# Altium integrated library Linear Technology Power Management Battery Management.IntLib: 626 symbols (part 41 of 56)
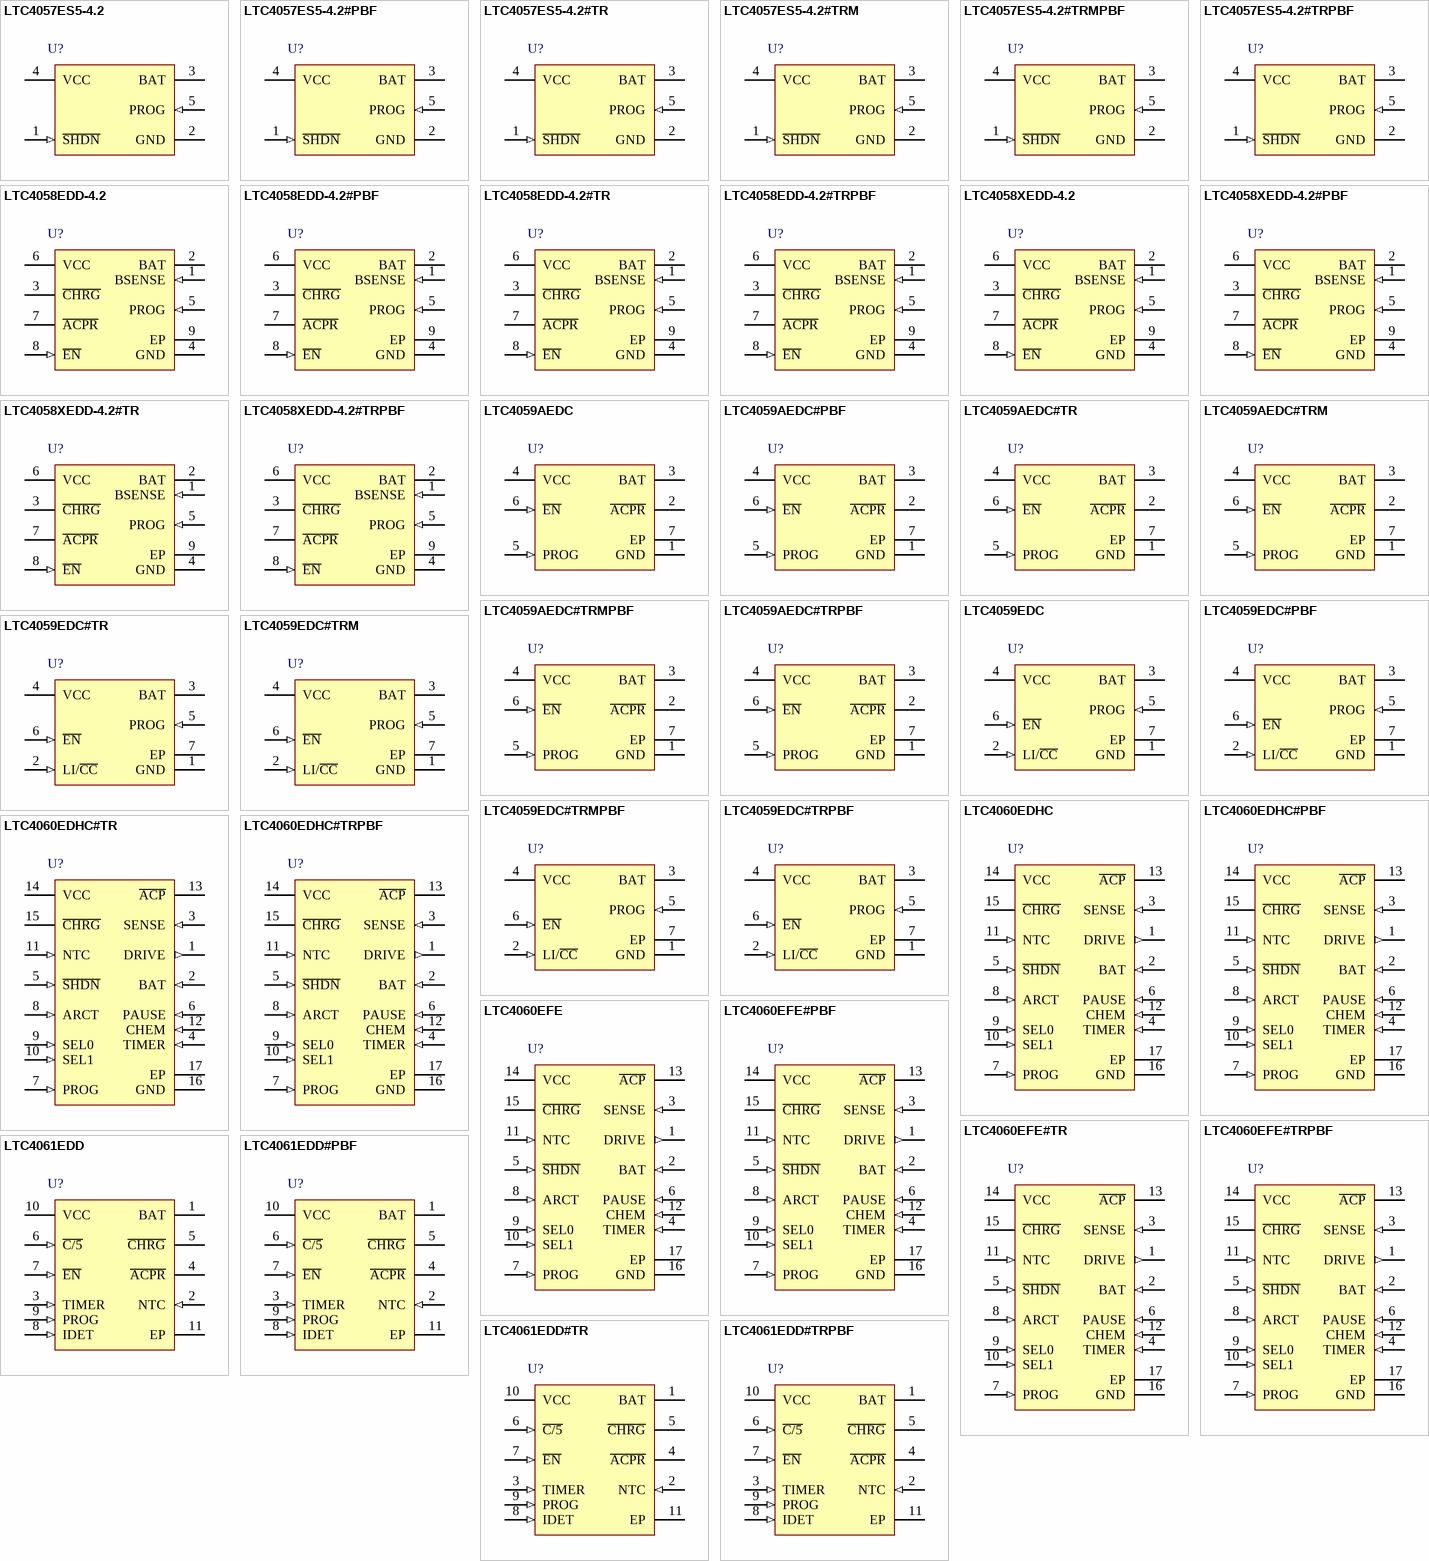
[diagram p62: symbols LTC4057ES5-4.2 to LTC4061EDD#TRPBF]

## LTC4058XEDD-4.2#TRPBF
designator U?
Standalone Linear Li-Ion Battery Charger with Thermal Regulation, 4.25 to 6.5 V Vin, 8-pin SON (DD-8), -40 to 85 degC, Pb-Free, Tape and Reel; Manufacturer: Linear Technology; PartNumber: LTC4058XEDD-4.2#TRPBF; Battery Chemistry: Li-Ion, Li-Polymer; Charge Termination: C/10; Float Voltage: 4.2 V; Max Charge Current(A): 0.95; Number of Cells: 1; Vin Max(V): 6.5; Vin Min(V): 4.25; PackageVersion: Jun-10; PackageReference: DD-8; PackageDescription: 8-Pin Plastic DFN, Body 3 x 3 mm, Pitch 0.5 mm; Supplier 1: Digi-Key; Supplier Part Number 1: LTC4058XEDD-4.2#TRPBF-ND; Packing: Tape and Reel; RoHS: TRUE; Type of Charger: Linear; Mounting Technology: Surface Mount; Code_JEDEC: MO-229; ComponentLink1Description: Manufacturer URL; ComponentLink1URL: http://www.linear.com/; ComponentLink2Description: Datasheet; ComponentLink2URL: http://cds.linear.com/docs/en/datasheet/405842fs.pdf; ComponentLink3Description: Package Specification; ComponentLink3URL: http://cds.linear.com/docs/en/packaging/DFN_8_05-08-1698.pdf
footprint LT-DD-8_V (SON, 8-Leads, Body 3x3mm, Pitch 0.5mm, Thermal Pad 1.65x2.38 mm)
pins: 1 BSENSE (in) "Battery Sense. This pin is used to Kelvin sense the positive battery terminal and regulate the final float voltage to 4.2V. An internal precision resistor divider sets this float voltage and is disconnected in shutdown mode. (See Datasheet)", 2 BAT (power) "Charge Current Output. Provides charge current to the battery from the internal P-channel MOSFET", 3 ~{CHRG} (hiz) "Charge Status Open-Drain Output. When the battery is charging, the C\H\R\G\ pin is pulled low by an internal N-channel MOSFET. When the charge cycle is completed, C\H\R\G\ becomes high impedance.", 4 GND (power) "Ground/Exposed Pad. The exposed backside of the package (Pin 9) is also ground and must be soldered to the PC board for maximum heat transfer.", 5 PROG (in) "Charge Current Program and Charge Current Monitor. Charge current is programmed by connecting a 1% resistor, RPROG, to ground. When charging in constant-current mode, this pin servos to 1V. In all modes,the voltage on this (See Datasheet)", 6 VCC (power) "Positive Input Supply Voltage. Provides power to the charger. VCC can range from 4.25V to 6.5V. This pin should be bypassed with at least a 1uF capacitor. When VCC is within 100mV of the BSENSE pin voltage, the LTC4058 (See Datasheet)", 7 ~{ACPR} (hiz) "Power Supply Status Open-Drain Output. When VCC is greater than the undervoltage lockout threshold and at least 100mV above VBSENSE, the A\C\P\R\ pin is pulled to ground; otherwise, the pin is high impedance.", 8 ~{EN} (in) "Enable Input . A logic high on the EN pin will put the LTC4058 into shutdown mode where the battery drain current is reduced to less than 2uA and the supply current is reduced to less than 50uA. A logic low or floating the (See Datasheet)", 9 EP (power) "Ground/Exposed Pad. The exposed backside of the package (Pin 9) is also ground and must be soldered to the PC board for maximum heat transfer."

## LTC4059AEDC
designator U?
900 mA Linear Li-Ion Battery Chargers with Thermal Regulation, 3.75 to 8 V Vin, 6-pin SON (DC6-6), -40 to 85 degC; Manufacturer: Linear Technology; PartNumber: LTC4059AEDC; Battery Chemistry: Li-Ion, Li-Polymer, NiCd, NiMH; Charge Termination: Microcontroller; Float Voltage: 4.2 V; Max Charge Current(A): 0.9; Number of Cells: 1; Vin Max(V): 8; Vin Min(V): 3.75; DatasheetVersion: Rev. B; PackageVersion: Rev. B, 06/2010; PackageReference: DC6-6; PackageDescription: 6-Pin Plastic DFN, Body 2 x 2 mm, Pitch 0.5 mm; RoHS: FALSE; Type of Charger: Linear; Mounting Technology: Surface Mount; Code_JEDEC: MO-229; ComponentLink1Description: Manufacturer URL; ComponentLink1URL: http://www.linear.com/; ComponentLink2Description: Datasheet; ComponentLink2URL: http://cds.linear.com/docs/en/datasheet/4059fb.pdf; ComponentLink3Description: Package Specification; ComponentLink3URL: http://cds.linear.com/docs/en/packaging/DFN_6_05-08-1703.pdf
footprint LT-DC6-6_V (SON, 6-Leads, Body 2x2mm, Pitch 0.5mm, Thermal Pad 1.42x0.61mm)
pins: 1 GND (power) "Ground.", 2 ~{ACPR} (hiz) "Open-Drain Power Supply Status Output. When VCC is greater than the undervoltage lockout threshold, the ACPR pin will pull to ground; otherwise the pin is forced to a high impedance state", 3 BAT (power) "Charge Current Output. Provides charge current to the battery and regulates the final float voltage to 4.2V. An internal precision resistor divider on this pin sets the float voltage and is disconnected in shutdown mode.", 4 VCC (power) "Positive Input Supply Voltage. This pin provides power to the charger. VCC can range from 3.75V to 5.5V. This pin should be bypassed with at least a 1uF capacitor. When VCC is within 32mV of the BAT pin voltage, the LTC4069 (See Datasheet)", 5 PROG (in) "Charge Current Program and Charge Current Monitor Pin. Connecting a 1% resistor, RPROG, to ground programs the charge current. When charging in constant-current mode, this pin servos to 1V. In all modes, the voltage on this (See Datasheet)", 6 ~{EN} (in) "Enable Input Pin. Pulling this pin above the  manual shutdown threshold (VMS is typically 0.92V) puts  the LTC4059 in shutdown mode, thus terminating a charge   cycle. In shutdown mode, the LTC4059 has less than 25uA  supply (See Datasheet)", 7 EP (power) "The exposed package pad is ground and must be soldered to the PC board for maximum heat transfer."

## LTC4059AEDC#PBF
designator U?
900 mA Linear Li-Ion Battery Chargers with Thermal Regulation, 3.75 to 8 V Vin, 6-pin SON (DC6-6), -40 to 85 degC, Pb-Free; Manufacturer: Linear Technology; PartNumber: LTC4059AEDC#PBF; Battery Chemistry: Li-Ion, Li-Polymer, NiCd, NiMH; Charge Termination: Microcontroller; Float Voltage: 4.2 V; Max Charge Current(A): 0.9; Number of Cells: 1; Vin Max(V): 8; Vin Min(V): 3.75; DatasheetVersion: Rev. B; PackageVersion: Rev. B, 06/2010; PackageReference: DC6-6; PackageDescription: 6-Pin Plastic DFN, Body 2 x 2 mm, Pitch 0.5 mm; RoHS: TRUE; Type of Charger: Linear; Mounting Technology: Surface Mount; Code_JEDEC: MO-229; ComponentLink1Description: Manufacturer URL; ComponentLink1URL: http://www.linear.com/; ComponentLink2Description: Datasheet; ComponentLink2URL: http://cds.linear.com/docs/en/datasheet/4059fb.pdf; ComponentLink3Description: Package Specification; ComponentLink3URL: http://cds.linear.com/docs/en/packaging/DFN_6_05-08-1703.pdf
footprint LT-DC6-6_V (SON, 6-Leads, Body 2x2mm, Pitch 0.5mm, Thermal Pad 1.42x0.61mm)
pins: 1 GND (power) "Ground.", 2 ~{ACPR} (hiz) "Open-Drain Power Supply Status Output. When VCC is greater than the undervoltage lockout threshold, the ACPR pin will pull to ground; otherwise the pin is forced to a high impedance state", 3 BAT (power) "Charge Current Output. Provides charge current to the battery and regulates the final float voltage to 4.2V. An internal precision resistor divider on this pin sets the float voltage and is disconnected in shutdown mode.", 4 VCC (power) "Positive Input Supply Voltage. This pin provides power to the charger. VCC can range from 3.75V to 5.5V. This pin should be bypassed with at least a 1uF capacitor. When VCC is within 32mV of the BAT pin voltage, the LTC4069 (See Datasheet)", 5 PROG (in) "Charge Current Program and Charge Current Monitor Pin. Connecting a 1% resistor, RPROG, to ground programs the charge current. When charging in constant-current mode, this pin servos to 1V. In all modes, the voltage on this (See Datasheet)", 6 ~{EN} (in) "Enable Input Pin. Pulling this pin above the  manual shutdown threshold (VMS is typically 0.92V) puts  the LTC4059 in shutdown mode, thus terminating a charge   cycle. In shutdown mode, the LTC4059 has less than 25uA  supply (See Datasheet)", 7 EP (power) "The exposed package pad is ground and must be soldered to the PC board for maximum heat transfer."

## LTC4059AEDC#TR
designator U?
900 mA Linear Li-Ion Battery Chargers with Thermal Regulation, 3.75 to 8 V Vin, 6-pin SON (DC6-6), -40 to 85 degC, Tape and Reel; Manufacturer: Linear Technology; PartNumber: LTC4059AEDC#TR; Battery Chemistry: Li-Ion, Li-Polymer, NiCd, NiMH; Charge Termination: Microcontroller; Float Voltage: 4.2 V; Max Charge Current(A): 0.9; Number of Cells: 1; Vin Max(V): 8; Vin Min(V): 3.75; DatasheetVersion: Rev. B; PackageVersion: Rev. B, 06/2010; PackageReference: DC6-6; PackageDescription: 6-Pin Plastic DFN, Body 2 x 2 mm, Pitch 0.5 mm; Supplier 1: Digi-Key; Supplier Part Number 1: LTC4059AEDC#TR-ND; Packing: Tape and Reel; RoHS: FALSE; Type of Charger: Linear; Mounting Technology: Surface Mount; Code_JEDEC: MO-229; ComponentLink1Description: Manufacturer URL; ComponentLink1URL: http://www.linear.com/; ComponentLink2Description: Datasheet; ComponentLink2URL: http://cds.linear.com/docs/en/datasheet/4059fb.pdf; ComponentLink3Description: Package Specification; ComponentLink3URL: http://cds.linear.com/docs/en/packaging/DFN_6_05-08-1703.pdf
footprint LT-DC6-6_V (SON, 6-Leads, Body 2x2mm, Pitch 0.5mm, Thermal Pad 1.42x0.61mm)
pins: 1 GND (power) "Ground.", 2 ~{ACPR} (hiz) "Open-Drain Power Supply Status Output. When VCC is greater than the undervoltage lockout threshold, the ACPR pin will pull to ground; otherwise the pin is forced to a high impedance state", 3 BAT (power) "Charge Current Output. Provides charge current to the battery and regulates the final float voltage to 4.2V. An internal precision resistor divider on this pin sets the float voltage and is disconnected in shutdown mode.", 4 VCC (power) "Positive Input Supply Voltage. This pin provides power to the charger. VCC can range from 3.75V to 5.5V. This pin should be bypassed with at least a 1uF capacitor. When VCC is within 32mV of the BAT pin voltage, the LTC4069 (See Datasheet)", 5 PROG (in) "Charge Current Program and Charge Current Monitor Pin. Connecting a 1% resistor, RPROG, to ground programs the charge current. When charging in constant-current mode, this pin servos to 1V. In all modes, the voltage on this (See Datasheet)", 6 ~{EN} (in) "Enable Input Pin. Pulling this pin above the  manual shutdown threshold (VMS is typically 0.92V) puts  the LTC4059 in shutdown mode, thus terminating a charge   cycle. In shutdown mode, the LTC4059 has less than 25uA  supply (See Datasheet)", 7 EP (power) "The exposed package pad is ground and must be soldered to the PC board for maximum heat transfer."

## LTC4059AEDC#TRM
designator U?
900 mA Linear Li-Ion Battery Chargers with Thermal Regulation, 3.75 to 8 V Vin, 6-pin SON (DC6-6), -40 to 85 degC, Mini Tape and Reel; Manufacturer: Linear Technology; PartNumber: LTC4059AEDC#TRM; Battery Chemistry: Li-Ion, Li-Polymer, NiCd, NiMH; Charge Termination: Microcontroller; Float Voltage: 4.2 V; Max Charge Current(A): 0.9; Number of Cells: 1; Vin Max(V): 8; Vin Min(V): 3.75; DatasheetVersion: Rev. B; PackageVersion: Rev. B, 06/2010; PackageReference: DC6-6; PackageDescription: 6-Pin Plastic DFN, Body 2 x 2 mm, Pitch 0.5 mm; Supplier 1: Digi-Key; Supplier Part Number 1: LTC4059AEDC#TRM-ND; Packing: Mini Tape and Reel; RoHS: FALSE; Type of Charger: Linear; Mounting Technology: Surface Mount; Code_JEDEC: MO-229; ComponentLink1Description: Manufacturer URL; ComponentLink1URL: http://www.linear.com/; ComponentLink2Description: Datasheet; ComponentLink2URL: http://cds.linear.com/docs/en/datasheet/4059fb.pdf; ComponentLink3Description: Package Specification; ComponentLink3URL: http://cds.linear.com/docs/en/packaging/DFN_6_05-08-1703.pdf
footprint LT-DC6-6_V (SON, 6-Leads, Body 2x2mm, Pitch 0.5mm, Thermal Pad 1.42x0.61mm)
pins: 1 GND (power) "Ground.", 2 ~{ACPR} (hiz) "Open-Drain Power Supply Status Output. When VCC is greater than the undervoltage lockout threshold, the ACPR pin will pull to ground; otherwise the pin is forced to a high impedance state", 3 BAT (power) "Charge Current Output. Provides charge current to the battery and regulates the final float voltage to 4.2V. An internal precision resistor divider on this pin sets the float voltage and is disconnected in shutdown mode.", 4 VCC (power) "Positive Input Supply Voltage. This pin provides power to the charger. VCC can range from 3.75V to 5.5V. This pin should be bypassed with at least a 1uF capacitor. When VCC is within 32mV of the BAT pin voltage, the LTC4069 (See Datasheet)", 5 PROG (in) "Charge Current Program and Charge Current Monitor Pin. Connecting a 1% resistor, RPROG, to ground programs the charge current. When charging in constant-current mode, this pin servos to 1V. In all modes, the voltage on this (See Datasheet)", 6 ~{EN} (in) "Enable Input Pin. Pulling this pin above the  manual shutdown threshold (VMS is typically 0.92V) puts  the LTC4059 in shutdown mode, thus terminating a charge   cycle. In shutdown mode, the LTC4059 has less than 25uA  supply (See Datasheet)", 7 EP (power) "The exposed package pad is ground and must be soldered to the PC board for maximum heat transfer."

## LTC4059AEDC#TRMPBF
designator U?
900 mA Linear Li-Ion Battery Chargers with Thermal Regulation, 3.75 to 8 V Vin, 6-pin SON (DC6-6), -40 to 85 degC, Pb-Free, Mini Tape and Reel; Manufacturer: Linear Technology; PartNumber: LTC4059AEDC#TRMPBF; Battery Chemistry: Li-Ion, Li-Polymer, NiCd, NiMH; Charge Termination: Microcontroller; Float Voltage: 4.2 V; Max Charge Current(A): 0.9; Number of Cells: 1; Vin Max(V): 8; Vin Min(V): 3.75; DatasheetVersion: Rev. B; PackageVersion: Rev. B, 06/2010; PackageReference: DC6-6; PackageDescription: 6-Pin Plastic DFN, Body 2 x 2 mm, Pitch 0.5 mm; Supplier 1: Digi-Key; Supplier Part Number 1: LTC4059AEDC#TRMPBF-ND; Supplier 2: Newark; Supplier Part Number 2: 56M8669; Packing: Mini Tape and Reel; RoHS: TRUE; Type of Charger: Linear; Mounting Technology: Surface Mount; Code_JEDEC: MO-229; ComponentLink1Description: Manufacturer URL; ComponentLink1URL: http://www.linear.com/; ComponentLink2Description: Datasheet; ComponentLink2URL: http://cds.linear.com/docs/en/datasheet/4059fb.pdf; ComponentLink3Description: Package Specification; ComponentLink3URL: http://cds.linear.com/docs/en/packaging/DFN_6_05-08-1703.pdf
footprint LT-DC6-6_V (SON, 6-Leads, Body 2x2mm, Pitch 0.5mm, Thermal Pad 1.42x0.61mm)
pins: 1 GND (power) "Ground.", 2 ~{ACPR} (hiz) "Open-Drain Power Supply Status Output. When VCC is greater than the undervoltage lockout threshold, the ACPR pin will pull to ground; otherwise the pin is forced to a high impedance state", 3 BAT (power) "Charge Current Output. Provides charge current to the battery and regulates the final float voltage to 4.2V. An internal precision resistor divider on this pin sets the float voltage and is disconnected in shutdown mode.", 4 VCC (power) "Positive Input Supply Voltage. This pin provides power to the charger. VCC can range from 3.75V to 5.5V. This pin should be bypassed with at least a 1uF capacitor. When VCC is within 32mV of the BAT pin voltage, the LTC4069 (See Datasheet)", 5 PROG (in) "Charge Current Program and Charge Current Monitor Pin. Connecting a 1% resistor, RPROG, to ground programs the charge current. When charging in constant-current mode, this pin servos to 1V. In all modes, the voltage on this (See Datasheet)", 6 ~{EN} (in) "Enable Input Pin. Pulling this pin above the  manual shutdown threshold (VMS is typically 0.92V) puts  the LTC4059 in shutdown mode, thus terminating a charge   cycle. In shutdown mode, the LTC4059 has less than 25uA  supply (See Datasheet)", 7 EP (power) "The exposed package pad is ground and must be soldered to the PC board for maximum heat transfer."

## LTC4059AEDC#TRPBF
designator U?
900 mA Linear Li-Ion Battery Chargers with Thermal Regulation, 3.75 to 8 V Vin, 6-pin SON (DC6-6), -40 to 85 degC, Pb-Free, Tape and Reel; Manufacturer: Linear Technology; PartNumber: LTC4059AEDC#TRPBF; Battery Chemistry: Li-Ion, Li-Polymer, NiCd, NiMH; Charge Termination: Microcontroller; Float Voltage: 4.2 V; Max Charge Current(A): 0.9; Number of Cells: 1; Vin Max(V): 8; Vin Min(V): 3.75; DatasheetVersion: Rev. B; PackageVersion: Rev. B, 06/2010; PackageReference: DC6-6; PackageDescription: 6-Pin Plastic DFN, Body 2 x 2 mm, Pitch 0.5 mm; Supplier 1: Digi-Key; Supplier Part Number 1: LTC4059AEDC#TRPBF-ND; Supplier 2: Newark; Supplier Part Number 2: 56M8670; Packing: Tape and Reel; RoHS: TRUE; Type of Charger: Linear; Mounting Technology: Surface Mount; Code_JEDEC: MO-229; ComponentLink1Description: Manufacturer URL; ComponentLink1URL: http://www.linear.com/; ComponentLink2Description: Datasheet; ComponentLink2URL: http://cds.linear.com/docs/en/datasheet/4059fb.pdf; ComponentLink3Description: Package Specification; ComponentLink3URL: http://cds.linear.com/docs/en/packaging/DFN_6_05-08-1703.pdf
footprint LT-DC6-6_V (SON, 6-Leads, Body 2x2mm, Pitch 0.5mm, Thermal Pad 1.42x0.61mm)
pins: 1 GND (power) "Ground.", 2 ~{ACPR} (hiz) "Open-Drain Power Supply Status Output. When VCC is greater than the undervoltage lockout threshold, the ACPR pin will pull to ground; otherwise the pin is forced to a high impedance state", 3 BAT (power) "Charge Current Output. Provides charge current to the battery and regulates the final float voltage to 4.2V. An internal precision resistor divider on this pin sets the float voltage and is disconnected in shutdown mode.", 4 VCC (power) "Positive Input Supply Voltage. This pin provides power to the charger. VCC can range from 3.75V to 5.5V. This pin should be bypassed with at least a 1uF capacitor. When VCC is within 32mV of the BAT pin voltage, the LTC4069 (See Datasheet)", 5 PROG (in) "Charge Current Program and Charge Current Monitor Pin. Connecting a 1% resistor, RPROG, to ground programs the charge current. When charging in constant-current mode, this pin servos to 1V. In all modes, the voltage on this (See Datasheet)", 6 ~{EN} (in) "Enable Input Pin. Pulling this pin above the  manual shutdown threshold (VMS is typically 0.92V) puts  the LTC4059 in shutdown mode, thus terminating a charge   cycle. In shutdown mode, the LTC4059 has less than 25uA  supply (See Datasheet)", 7 EP (power) "The exposed package pad is ground and must be soldered to the PC board for maximum heat transfer."

## LTC4059EDC
designator U?
900 mA Linear Li-Ion Battery Chargers with Thermal Regulation, 3.75 to 8 V Vin, 6-pin SON (DC6-6), -40 to 85 degC; Manufacturer: Linear Technology; PartNumber: LTC4059EDC; Battery Chemistry: Li-Ion, Li-Polymer, NiCd, NiMH; Charge Termination: Microcontroller; Float Voltage: 4.2 V; Max Charge Current(A): 0.9; Number of Cells: 1; Vin Max(V): 8; Vin Min(V): 3.75; DatasheetVersion: Rev. B; PackageVersion: Rev. B, 06/2010; PackageReference: DC6-6; PackageDescription: 6-Pin Plastic DFN, Body 2 x 2 mm, Pitch 0.5 mm; RoHS: FALSE; Type of Charger: Linear; Mounting Technology: Surface Mount; Code_JEDEC: MO-229; ComponentLink1Description: Manufacturer URL; ComponentLink1URL: http://www.linear.com/; ComponentLink2Description: Datasheet; ComponentLink2URL: http://cds.linear.com/docs/en/datasheet/4059fb.pdf; ComponentLink3Description: Package Specification; ComponentLink3URL: http://cds.linear.com/docs/en/packaging/DFN_6_05-08-1703.pdf
footprint LT-DC6-6_V (SON, 6-Leads, Body 2x2mm, Pitch 0.5mm, Thermal Pad 1.42x0.61mm)
pins: 1 GND (power) "Ground.", 2 LI/~{CC} (in) "Li-Ion/Constant Current Input Pin. Pulling this pin above VLi/C\C\ disables voltage mode thereby providing a constant current to the BAT pin. This feature is useful for charging Nickel chemistry batteries. Tie to GND if (See Datasheet)", 3 BAT (power) "Charge Current Output. Provides charge current to the battery and regulates the final float voltage to 4.2V. An internal precision resistor divider on this pin sets the float voltage and is disconnected in shutdown mode.", 4 VCC (power) "Positive Input Supply Voltage. This pin provides power to the charger. VCC can range from 3.75V to 8V. This pin should be bypassed with at least a 1uF capacitor. When VCC is within 35mV of the BAT pin voltage, the LTC4059 (See Datasheet)", 5 PROG (in) "Charge Current Program and Charge Current Monitor Pin. Connecting a resistor, RPROG, to ground programs the charge current. When charging in constantcurrent mode, this pin servos to 1.21V. In all modes, the voltage on this (See Datasheet)", 6 ~{EN} (in) "Enable Input Pin. Pulling this pin above the  manual shutdown threshold (VMS is typically 0.92V) puts  the LTC4059 in shutdown mode, thus terminating a charge   cycle. In shutdown mode, the LTC4059 has less than 25uA  supply (See Datasheet)", 7 EP (power) "The exposed package pad is ground and must be soldered to the PC board for maximum heat transfer."

## LTC4059EDC#PBF
designator U?
900 mA Linear Li-Ion Battery Chargers with Thermal Regulation, 3.75 to 8 V Vin, 6-pin SON (DC6-6), -40 to 85 degC, Pb-Free; Manufacturer: Linear Technology; PartNumber: LTC4059EDC#PBF; Battery Chemistry: Li-Ion, Li-Polymer, NiCd, NiMH; Charge Termination: Microcontroller; Float Voltage: 4.2 V; Max Charge Current(A): 0.9; Number of Cells: 1; Vin Max(V): 8; Vin Min(V): 3.75; DatasheetVersion: Rev. B; PackageVersion: Rev. B, 06/2010; PackageReference: DC6-6; PackageDescription: 6-Pin Plastic DFN, Body 2 x 2 mm, Pitch 0.5 mm; Supplier 1: Newark; Supplier Part Number 1: 78T3299; RoHS: TRUE; Type of Charger: Linear; Mounting Technology: Surface Mount; Code_JEDEC: MO-229; ComponentLink1Description: Manufacturer URL; ComponentLink1URL: http://www.linear.com/; ComponentLink2Description: Datasheet; ComponentLink2URL: http://cds.linear.com/docs/en/datasheet/4059fb.pdf; ComponentLink3Description: Package Specification; ComponentLink3URL: http://cds.linear.com/docs/en/packaging/DFN_6_05-08-1703.pdf
footprint LT-DC6-6_V (SON, 6-Leads, Body 2x2mm, Pitch 0.5mm, Thermal Pad 1.42x0.61mm)
pins: 1 GND (power) "Ground.", 2 LI/~{CC} (in) "Li-Ion/Constant Current Input Pin. Pulling this pin above VLi/C\C\ disables voltage mode thereby providing a constant current to the BAT pin. This feature is useful for charging Nickel chemistry batteries. Tie to GND if (See Datasheet)", 3 BAT (power) "Charge Current Output. Provides charge current to the battery and regulates the final float voltage to 4.2V. An internal precision resistor divider on this pin sets the float voltage and is disconnected in shutdown mode.", 4 VCC (power) "Positive Input Supply Voltage. This pin provides power to the charger. VCC can range from 3.75V to 8V. This pin should be bypassed with at least a 1uF capacitor. When VCC is within 35mV of the BAT pin voltage, the LTC4059 (See Datasheet)", 5 PROG (in) "Charge Current Program and Charge Current Monitor Pin. Connecting a resistor, RPROG, to ground programs the charge current. When charging in constantcurrent mode, this pin servos to 1.21V. In all modes, the voltage on this (See Datasheet)", 6 ~{EN} (in) "Enable Input Pin. Pulling this pin above the  manual shutdown threshold (VMS is typically 0.92V) puts  the LTC4059 in shutdown mode, thus terminating a charge   cycle. In shutdown mode, the LTC4059 has less than 25uA  supply (See Datasheet)", 7 EP (power) "The exposed package pad is ground and must be soldered to the PC board for maximum heat transfer."

## LTC4059EDC#TR
designator U?
900 mA Linear Li-Ion Battery Chargers with Thermal Regulation, 3.75 to 8 V Vin, 6-pin SON (DC6-6), -40 to 85 degC, Tape and Reel; Manufacturer: Linear Technology; PartNumber: LTC4059EDC#TR; Battery Chemistry: Li-Ion, Li-Polymer, NiCd, NiMH; Charge Termination: Microcontroller; Float Voltage: 4.2 V; Max Charge Current(A): 0.9; Number of Cells: 1; Vin Max(V): 8; Vin Min(V): 3.75; DatasheetVersion: Rev. B; PackageVersion: Rev. B, 06/2010; PackageReference: DC6-6; PackageDescription: 6-Pin Plastic DFN, Body 2 x 2 mm, Pitch 0.5 mm; Supplier 1: Digi-Key; Supplier Part Number 1: LTC4059EDC#TR-ND; Packing: Tape and Reel; RoHS: FALSE; Type of Charger: Linear; Mounting Technology: Surface Mount; Code_JEDEC: MO-229; ComponentLink1Description: Manufacturer URL; ComponentLink1URL: http://www.linear.com/; ComponentLink2Description: Datasheet; ComponentLink2URL: http://cds.linear.com/docs/en/datasheet/4059fb.pdf; ComponentLink3Description: Package Specification; ComponentLink3URL: http://cds.linear.com/docs/en/packaging/DFN_6_05-08-1703.pdf
footprint LT-DC6-6_V (SON, 6-Leads, Body 2x2mm, Pitch 0.5mm, Thermal Pad 1.42x0.61mm)
pins: 1 GND (power) "Ground.", 2 LI/~{CC} (in) "Li-Ion/Constant Current Input Pin. Pulling this pin above VLi/C\C\ disables voltage mode thereby providing a constant current to the BAT pin. This feature is useful for charging Nickel chemistry batteries. Tie to GND if (See Datasheet)", 3 BAT (power) "Charge Current Output. Provides charge current to the battery and regulates the final float voltage to 4.2V. An internal precision resistor divider on this pin sets the float voltage and is disconnected in shutdown mode.", 4 VCC (power) "Positive Input Supply Voltage. This pin provides power to the charger. VCC can range from 3.75V to 8V. This pin should be bypassed with at least a 1uF capacitor. When VCC is within 35mV of the BAT pin voltage, the LTC4059 (See Datasheet)", 5 PROG (in) "Charge Current Program and Charge Current Monitor Pin. Connecting a resistor, RPROG, to ground programs the charge current. When charging in constantcurrent mode, this pin servos to 1.21V. In all modes, the voltage on this (See Datasheet)", 6 ~{EN} (in) "Enable Input Pin. Pulling this pin above the  manual shutdown threshold (VMS is typically 0.92V) puts  the LTC4059 in shutdown mode, thus terminating a charge   cycle. In shutdown mode, the LTC4059 has less than 25uA  supply (See Datasheet)", 7 EP (power) "The exposed package pad is ground and must be soldered to the PC board for maximum heat transfer."

## LTC4059EDC#TRM
designator U?
900 mA Linear Li-Ion Battery Chargers with Thermal Regulation, 3.75 to 8 V Vin, 6-pin SON (DC6-6), -40 to 85 degC, Mini Tape and Reel; Manufacturer: Linear Technology; PartNumber: LTC4059EDC#TRM; Battery Chemistry: Li-Ion, Li-Polymer, NiCd, NiMH; Charge Termination: Microcontroller; Float Voltage: 4.2 V; Max Charge Current(A): 0.9; Number of Cells: 1; Vin Max(V): 8; Vin Min(V): 3.75; DatasheetVersion: Rev. B; PackageVersion: Rev. B, 06/2010; PackageReference: DC6-6; PackageDescription: 6-Pin Plastic DFN, Body 2 x 2 mm, Pitch 0.5 mm; Supplier 1: Digi-Key; Supplier Part Number 1: LTC4059EDC#TRM-ND; Packing: Mini Tape and Reel; RoHS: FALSE; Type of Charger: Linear; Mounting Technology: Surface Mount; Code_JEDEC: MO-229; ComponentLink1Description: Manufacturer URL; ComponentLink1URL: http://www.linear.com/; ComponentLink2Description: Datasheet; ComponentLink2URL: http://cds.linear.com/docs/en/datasheet/4059fb.pdf; ComponentLink3Description: Package Specification; ComponentLink3URL: http://cds.linear.com/docs/en/packaging/DFN_6_05-08-1703.pdf
footprint LT-DC6-6_V (SON, 6-Leads, Body 2x2mm, Pitch 0.5mm, Thermal Pad 1.42x0.61mm)
pins: 1 GND (power) "Ground.", 2 LI/~{CC} (in) "Li-Ion/Constant Current Input Pin. Pulling this pin above VLi/C\C\ disables voltage mode thereby providing a constant current to the BAT pin. This feature is useful for charging Nickel chemistry batteries. Tie to GND if (See Datasheet)", 3 BAT (power) "Charge Current Output. Provides charge current to the battery and regulates the final float voltage to 4.2V. An internal precision resistor divider on this pin sets the float voltage and is disconnected in shutdown mode.", 4 VCC (power) "Positive Input Supply Voltage. This pin provides power to the charger. VCC can range from 3.75V to 8V. This pin should be bypassed with at least a 1uF capacitor. When VCC is within 35mV of the BAT pin voltage, the LTC4059 (See Datasheet)", 5 PROG (in) "Charge Current Program and Charge Current Monitor Pin. Connecting a resistor, RPROG, to ground programs the charge current. When charging in constantcurrent mode, this pin servos to 1.21V. In all modes, the voltage on this (See Datasheet)", 6 ~{EN} (in) "Enable Input Pin. Pulling this pin above the  manual shutdown threshold (VMS is typically 0.92V) puts  the LTC4059 in shutdown mode, thus terminating a charge   cycle. In shutdown mode, the LTC4059 has less than 25uA  supply (See Datasheet)", 7 EP (power) "The exposed package pad is ground and must be soldered to the PC board for maximum heat transfer."

## LTC4059EDC#TRMPBF
designator U?
900 mA Linear Li-Ion Battery Chargers with Thermal Regulation, 3.75 to 8 V Vin, 6-pin SON (DC6-6), -40 to 85 degC, Pb-Free, Mini Tape and Reel; Manufacturer: Linear Technology; PartNumber: LTC4059EDC#TRMPBF; Battery Chemistry: Li-Ion, Li-Polymer, NiCd, NiMH; Charge Termination: Microcontroller; Float Voltage: 4.2 V; Max Charge Current(A): 0.9; Number of Cells: 1; Vin Max(V): 8; Vin Min(V): 3.75; DatasheetVersion: Rev. B; PackageVersion: Rev. B, 06/2010; PackageReference: DC6-6; PackageDescription: 6-Pin Plastic DFN, Body 2 x 2 mm, Pitch 0.5 mm; Supplier 1: Digi-Key; Supplier Part Number 1: LTC4059EDC#TRMPBF-ND; Supplier 2: Newark; Supplier Part Number 2: 58M0883; Packing: Mini Tape and Reel; RoHS: TRUE; Type of Charger: Linear; Mounting Technology: Surface Mount; Code_JEDEC: MO-229; ComponentLink1Description: Manufacturer URL; ComponentLink1URL: http://www.linear.com/; ComponentLink2Description: Datasheet; ComponentLink2URL: http://cds.linear.com/docs/en/datasheet/4059fb.pdf; ComponentLink3Description: Package Specification; ComponentLink3URL: http://cds.linear.com/docs/en/packaging/DFN_6_05-08-1703.pdf
footprint LT-DC6-6_V (SON, 6-Leads, Body 2x2mm, Pitch 0.5mm, Thermal Pad 1.42x0.61mm)
pins: 1 GND (power) "Ground.", 2 LI/~{CC} (in) "Li-Ion/Constant Current Input Pin. Pulling this pin above VLi/C\C\ disables voltage mode thereby providing a constant current to the BAT pin. This feature is useful for charging Nickel chemistry batteries. Tie to GND if (See Datasheet)", 3 BAT (power) "Charge Current Output. Provides charge current to the battery and regulates the final float voltage to 4.2V. An internal precision resistor divider on this pin sets the float voltage and is disconnected in shutdown mode.", 4 VCC (power) "Positive Input Supply Voltage. This pin provides power to the charger. VCC can range from 3.75V to 8V. This pin should be bypassed with at least a 1uF capacitor. When VCC is within 35mV of the BAT pin voltage, the LTC4059 (See Datasheet)", 5 PROG (in) "Charge Current Program and Charge Current Monitor Pin. Connecting a resistor, RPROG, to ground programs the charge current. When charging in constantcurrent mode, this pin servos to 1.21V. In all modes, the voltage on this (See Datasheet)", 6 ~{EN} (in) "Enable Input Pin. Pulling this pin above the  manual shutdown threshold (VMS is typically 0.92V) puts  the LTC4059 in shutdown mode, thus terminating a charge   cycle. In shutdown mode, the LTC4059 has less than 25uA  supply (See Datasheet)", 7 EP (power) "The exposed package pad is ground and must be soldered to the PC board for maximum heat transfer."

## LTC4059EDC#TRPBF
designator U?
900 mA Linear Li-Ion Battery Chargers with Thermal Regulation, 3.75 to 8 V Vin, 6-pin SON (DC6-6), -40 to 85 degC, Pb-Free, Tape and Reel; Manufacturer: Linear Technology; PartNumber: LTC4059EDC#TRPBF; Battery Chemistry: Li-Ion, Li-Polymer, NiCd, NiMH; Charge Termination: Microcontroller; Float Voltage: 4.2 V; Max Charge Current(A): 0.9; Number of Cells: 1; Vin Max(V): 8; Vin Min(V): 3.75; DatasheetVersion: Rev. B; PackageVersion: Rev. B, 06/2010; PackageReference: DC6-6; PackageDescription: 6-Pin Plastic DFN, Body 2 x 2 mm, Pitch 0.5 mm; Supplier 1: Digi-Key; Supplier Part Number 1: LTC4059EDC#TRPBF-ND; Supplier 2: Newark; Supplier Part Number 2: 58M0884; Packing: Tape and Reel; RoHS: TRUE; Type of Charger: Linear; Mounting Technology: Surface Mount; Code_JEDEC: MO-229; ComponentLink1Description: Manufacturer URL; ComponentLink1URL: http://www.linear.com/; ComponentLink2Description: Datasheet; ComponentLink2URL: http://cds.linear.com/docs/en/datasheet/4059fb.pdf; ComponentLink3Description: Package Specification; ComponentLink3URL: http://cds.linear.com/docs/en/packaging/DFN_6_05-08-1703.pdf
footprint LT-DC6-6_V (SON, 6-Leads, Body 2x2mm, Pitch 0.5mm, Thermal Pad 1.42x0.61mm)
pins: 1 GND (power) "Ground.", 2 LI/~{CC} (in) "Li-Ion/Constant Current Input Pin. Pulling this pin above VLi/C\C\ disables voltage mode thereby providing a constant current to the BAT pin. This feature is useful for charging Nickel chemistry batteries. Tie to GND if (See Datasheet)", 3 BAT (power) "Charge Current Output. Provides charge current to the battery and regulates the final float voltage to 4.2V. An internal precision resistor divider on this pin sets the float voltage and is disconnected in shutdown mode.", 4 VCC (power) "Positive Input Supply Voltage. This pin provides power to the charger. VCC can range from 3.75V to 8V. This pin should be bypassed with at least a 1uF capacitor. When VCC is within 35mV of the BAT pin voltage, the LTC4059 (See Datasheet)", 5 PROG (in) "Charge Current Program and Charge Current Monitor Pin. Connecting a resistor, RPROG, to ground programs the charge current. When charging in constantcurrent mode, this pin servos to 1.21V. In all modes, the voltage on this (See Datasheet)", 6 ~{EN} (in) "Enable Input Pin. Pulling this pin above the  manual shutdown threshold (VMS is typically 0.92V) puts  the LTC4059 in shutdown mode, thus terminating a charge   cycle. In shutdown mode, the LTC4059 has less than 25uA  supply (See Datasheet)", 7 EP (power) "The exposed package pad is ground and must be soldered to the PC board for maximum heat transfer."

## LTC4060EDHC
designator U?
Standalone Linear NiMH / NiCd Fast Battery Charger, 4.5 to 10 V Vin, 16-pin SON (DHC-16), -40 to 85 degC; Manufacturer: Linear Technology; PartNumber: LTC4060EDHC; Battery Chemistry: NiCd, NiMH, Lead Acid; Float Voltage: Adj; Max Charge Current(A): 2; Number of Cells: 1 to 4; Vin Max(V): 10; Vin Min(V): 4.5; PackageVersion: Jun-10; PackageReference: DHC-16; PackageDescription: 16-Pin Plastic DFN, Body 5 x 3 mm, Pitch 0.5 mm; RoHS: FALSE; Type of Charger: Linear; Mounting Technology: Surface Mount; Code_JEDEC: MO-229; ComponentLink1Description: Manufacturer URL; ComponentLink1URL: http://www.linear.com/; ComponentLink2Description: Datasheet; ComponentLink2URL: http://cds.linear.com/docs/en/datasheet/4060f.pdf; ComponentLink3Description: Package Specification; ComponentLink3URL: http://cds.linear.com/docs/en/packaging/DFN_16_05-08-1706.pdf
footprint LT-DHC-16_V (SON, 16-Leads, Body 5x3mm, Pitch 0.5mm, Thermal Pad 4.4X1.65mm)
pins: 1 DRIVE (out) "Base Drive Output for the External PNP Pass Transistor. Provides a controlled sink current that drives the base of the PNP. This pin has current limit protection for the LTC4060.", 2 BAT (in) "Battery Voltage Sense Input Pin. The LTC4060 uses the voltage on this pin to monitor battery voltage and control the battery current during charging. An internal resistor divider is connected to this pin which is (See Datasheet)", 3 SENSE (in) "Charge Current Sense Node Input. Current from VCC passes through the internal current sense resistor and reappears at the SENSE pin to supply current to the external PNP emitter. The PNP collector provides charge current (See Datasheet)", 4 TIMER (in) "Charge Timer Input. A capacitor connected between TIMER and GND along with a resistor connected from PROG to GND programs the charge cycle timing limits.", 5 ~{SHDN} (in) "Active Low Shutdown Control Logic Input. When pulled low, charging stops and the LTC4060 supply current is minimized.", 6 PAUSE (in) "Pause Enable Logic Input. The charger can be paused, turning off the charge current, disabling termination and stopping the timer when this pin is high. A low level will resume the charging process.", 7 PROG (in) "Charge Current Programming Input. Provides a virtual reference of 1.5V for an external resistor (RPROG) tied between this pin and GND that programs the battery charge current. The fast charge current will be 930 times the (See Datasheet)", 8 ARCT (in) "Autorecharge Threshold Programming Input. When the average cell voltage falls below this threshold, charging is reinitiated. The voltage on this pin is conveniently derived by using two series PROG pin resistors and (See Datasheet)", 9 SEL0 (in) "Number of Cells Selection Logic Input. For single cell, connect both pins to GND. For two cells, connect SEL1 to GND and SEL0 to VCC. For three cells, SEL1 connects to VCC and SEL0 to GND. For four cells, connect both pins (See Datasheet)", 10 SEL1 (in) "Number of Cells Selection Logic Input. For single cell, connect both pins to GND. For two cells, connect SEL1 to GND and SEL0 to VCC. For three cells, SEL1 connects to VCC and SEL0 to GND. For four cells, connect both pins (See Datasheet)", 11 NTC (in) "Battery Temperature Input. An external NTC thermistor network may be connected to NTC to provide temperature-based charge qualification. Connecting NTC to GND inhibits this function.", 12 CHEM (in) "Battery Chemistry Selection Logic Input. When connected to a high level NiCd fast charge -deltaV termination parameters are used. A low level selects NiMH parameters.", 13 ~{ACP} (hiz) "Open-Drain Power Supply Status Output. When VCC is greater than the undervoltage lockout threshold, the A\C\P\ pin will pull to ground. Otherwise the pin is high impedance. This output is capable of driving an LED.", 14 VCC (power) "Power Input. This pin can be bypassed to ground with a capacitance of 1uF.", 15 ~{CHRG} (hiz) "Open-Drain Charge Indicator Status Output. The LTC4060 indicates it is providing charge to the battery by driving this pin to GND. If charging is paused or suspended due to abnormal battery temperature, the pin remains (See Datasheet)", 16 GND (power) "Ground. This pin provides a ground for the internal voltage reference and other circuits. All voltage thresholds are referenced to this pin.", 17 EP (power) "Thermal Connection. Internally connected to GND. Solder to PCB ground for optimum thermal performance."

## LTC4060EDHC#PBF
designator U?
Standalone Linear NiMH / NiCd Fast Battery Charger, 4.5 to 10 V Vin, 16-pin SON (DHC-16), -40 to 85 degC, Pb-Free; Manufacturer: Linear Technology; PartNumber: LTC4060EDHC#PBF; Battery Chemistry: NiCd, NiMH, Lead Acid; Float Voltage: Adj; Max Charge Current(A): 2; Number of Cells: 1 to 4; Vin Max(V): 10; Vin Min(V): 4.5; PackageVersion: Jun-10; PackageReference: DHC-16; PackageDescription: 16-Pin Plastic DFN, Body 5 x 3 mm, Pitch 0.5 mm; Supplier 1: Digi-Key; Supplier Part Number 1: LTC4060EDHC#PBF-ND; RoHS: TRUE; Type of Charger: Linear; Mounting Technology: Surface Mount; Code_JEDEC: MO-229; ComponentLink1Description: Manufacturer URL; ComponentLink1URL: http://www.linear.com/; ComponentLink2Description: Datasheet; ComponentLink2URL: http://cds.linear.com/docs/en/datasheet/4060f.pdf; ComponentLink3Description: Package Specification; ComponentLink3URL: http://cds.linear.com/docs/en/packaging/DFN_16_05-08-1706.pdf
footprint LT-DHC-16_V (SON, 16-Leads, Body 5x3mm, Pitch 0.5mm, Thermal Pad 4.4X1.65mm)
pins: 1 DRIVE (out) "Base Drive Output for the External PNP Pass Transistor. Provides a controlled sink current that drives the base of the PNP. This pin has current limit protection for the LTC4060.", 2 BAT (in) "Battery Voltage Sense Input Pin. The LTC4060 uses the voltage on this pin to monitor battery voltage and control the battery current during charging. An internal resistor divider is connected to this pin which is (See Datasheet)", 3 SENSE (in) "Charge Current Sense Node Input. Current from VCC passes through the internal current sense resistor and reappears at the SENSE pin to supply current to the external PNP emitter. The PNP collector provides charge current (See Datasheet)", 4 TIMER (in) "Charge Timer Input. A capacitor connected between TIMER and GND along with a resistor connected from PROG to GND programs the charge cycle timing limits.", 5 ~{SHDN} (in) "Active Low Shutdown Control Logic Input. When pulled low, charging stops and the LTC4060 supply current is minimized.", 6 PAUSE (in) "Pause Enable Logic Input. The charger can be paused, turning off the charge current, disabling termination and stopping the timer when this pin is high. A low level will resume the charging process.", 7 PROG (in) "Charge Current Programming Input. Provides a virtual reference of 1.5V for an external resistor (RPROG) tied between this pin and GND that programs the battery charge current. The fast charge current will be 930 times the (See Datasheet)", 8 ARCT (in) "Autorecharge Threshold Programming Input. When the average cell voltage falls below this threshold, charging is reinitiated. The voltage on this pin is conveniently derived by using two series PROG pin resistors and (See Datasheet)", 9 SEL0 (in) "Number of Cells Selection Logic Input. For single cell, connect both pins to GND. For two cells, connect SEL1 to GND and SEL0 to VCC. For three cells, SEL1 connects to VCC and SEL0 to GND. For four cells, connect both pins (See Datasheet)", 10 SEL1 (in) "Number of Cells Selection Logic Input. For single cell, connect both pins to GND. For two cells, connect SEL1 to GND and SEL0 to VCC. For three cells, SEL1 connects to VCC and SEL0 to GND. For four cells, connect both pins (See Datasheet)", 11 NTC (in) "Battery Temperature Input. An external NTC thermistor network may be connected to NTC to provide temperature-based charge qualification. Connecting NTC to GND inhibits this function.", 12 CHEM (in) "Battery Chemistry Selection Logic Input. When connected to a high level NiCd fast charge -deltaV termination parameters are used. A low level selects NiMH parameters.", 13 ~{ACP} (hiz) "Open-Drain Power Supply Status Output. When VCC is greater than the undervoltage lockout threshold, the A\C\P\ pin will pull to ground. Otherwise the pin is high impedance. This output is capable of driving an LED.", 14 VCC (power) "Power Input. This pin can be bypassed to ground with a capacitance of 1uF.", 15 ~{CHRG} (hiz) "Open-Drain Charge Indicator Status Output. The LTC4060 indicates it is providing charge to the battery by driving this pin to GND. If charging is paused or suspended due to abnormal battery temperature, the pin remains (See Datasheet)", 16 GND (power) "Ground. This pin provides a ground for the internal voltage reference and other circuits. All voltage thresholds are referenced to this pin.", 17 EP (power) "Thermal Connection. Internally connected to GND. Solder to PCB ground for optimum thermal performance."

## LTC4060EDHC#TR
designator U?
Standalone Linear NiMH / NiCd Fast Battery Charger, 4.5 to 10 V Vin, 16-pin SON (DHC-16), -40 to 85 degC, Tape and Reel; Manufacturer: Linear Technology; PartNumber: LTC4060EDHC#TR; Battery Chemistry: NiCd, NiMH, Lead Acid; Float Voltage: Adj; Max Charge Current(A): 2; Number of Cells: 1 to 4; Vin Max(V): 10; Vin Min(V): 4.5; PackageVersion: Jun-10; PackageReference: DHC-16; PackageDescription: 16-Pin Plastic DFN, Body 5 x 3 mm, Pitch 0.5 mm; Packing: Tape and Reel; RoHS: FALSE; Type of Charger: Linear; Mounting Technology: Surface Mount; Code_JEDEC: MO-229; ComponentLink1Description: Manufacturer URL; ComponentLink1URL: http://www.linear.com/; ComponentLink2Description: Datasheet; ComponentLink2URL: http://cds.linear.com/docs/en/datasheet/4060f.pdf; ComponentLink3Description: Package Specification; ComponentLink3URL: http://cds.linear.com/docs/en/packaging/DFN_16_05-08-1706.pdf
footprint LT-DHC-16_V (SON, 16-Leads, Body 5x3mm, Pitch 0.5mm, Thermal Pad 4.4X1.65mm)
pins: 1 DRIVE (out) "Base Drive Output for the External PNP Pass Transistor. Provides a controlled sink current that drives the base of the PNP. This pin has current limit protection for the LTC4060.", 2 BAT (in) "Battery Voltage Sense Input Pin. The LTC4060 uses the voltage on this pin to monitor battery voltage and control the battery current during charging. An internal resistor divider is connected to this pin which is (See Datasheet)", 3 SENSE (in) "Charge Current Sense Node Input. Current from VCC passes through the internal current sense resistor and reappears at the SENSE pin to supply current to the external PNP emitter. The PNP collector provides charge current (See Datasheet)", 4 TIMER (in) "Charge Timer Input. A capacitor connected between TIMER and GND along with a resistor connected from PROG to GND programs the charge cycle timing limits.", 5 ~{SHDN} (in) "Active Low Shutdown Control Logic Input. When pulled low, charging stops and the LTC4060 supply current is minimized.", 6 PAUSE (in) "Pause Enable Logic Input. The charger can be paused, turning off the charge current, disabling termination and stopping the timer when this pin is high. A low level will resume the charging process.", 7 PROG (in) "Charge Current Programming Input. Provides a virtual reference of 1.5V for an external resistor (RPROG) tied between this pin and GND that programs the battery charge current. The fast charge current will be 930 times the (See Datasheet)", 8 ARCT (in) "Autorecharge Threshold Programming Input. When the average cell voltage falls below this threshold, charging is reinitiated. The voltage on this pin is conveniently derived by using two series PROG pin resistors and (See Datasheet)", 9 SEL0 (in) "Number of Cells Selection Logic Input. For single cell, connect both pins to GND. For two cells, connect SEL1 to GND and SEL0 to VCC. For three cells, SEL1 connects to VCC and SEL0 to GND. For four cells, connect both pins (See Datasheet)", 10 SEL1 (in) "Number of Cells Selection Logic Input. For single cell, connect both pins to GND. For two cells, connect SEL1 to GND and SEL0 to VCC. For three cells, SEL1 connects to VCC and SEL0 to GND. For four cells, connect both pins (See Datasheet)", 11 NTC (in) "Battery Temperature Input. An external NTC thermistor network may be connected to NTC to provide temperature-based charge qualification. Connecting NTC to GND inhibits this function.", 12 CHEM (in) "Battery Chemistry Selection Logic Input. When connected to a high level NiCd fast charge -deltaV termination parameters are used. A low level selects NiMH parameters.", 13 ~{ACP} (hiz) "Open-Drain Power Supply Status Output. When VCC is greater than the undervoltage lockout threshold, the A\C\P\ pin will pull to ground. Otherwise the pin is high impedance. This output is capable of driving an LED.", 14 VCC (power) "Power Input. This pin can be bypassed to ground with a capacitance of 1uF.", 15 ~{CHRG} (hiz) "Open-Drain Charge Indicator Status Output. The LTC4060 indicates it is providing charge to the battery by driving this pin to GND. If charging is paused or suspended due to abnormal battery temperature, the pin remains (See Datasheet)", 16 GND (power) "Ground. This pin provides a ground for the internal voltage reference and other circuits. All voltage thresholds are referenced to this pin.", 17 EP (power) "Thermal Connection. Internally connected to GND. Solder to PCB ground for optimum thermal performance."